# Altium schematic symbol library pcmcia.SCHLIB: 3 symbols
Pins are listed as number, name and electrical type; pins without a type are passive.

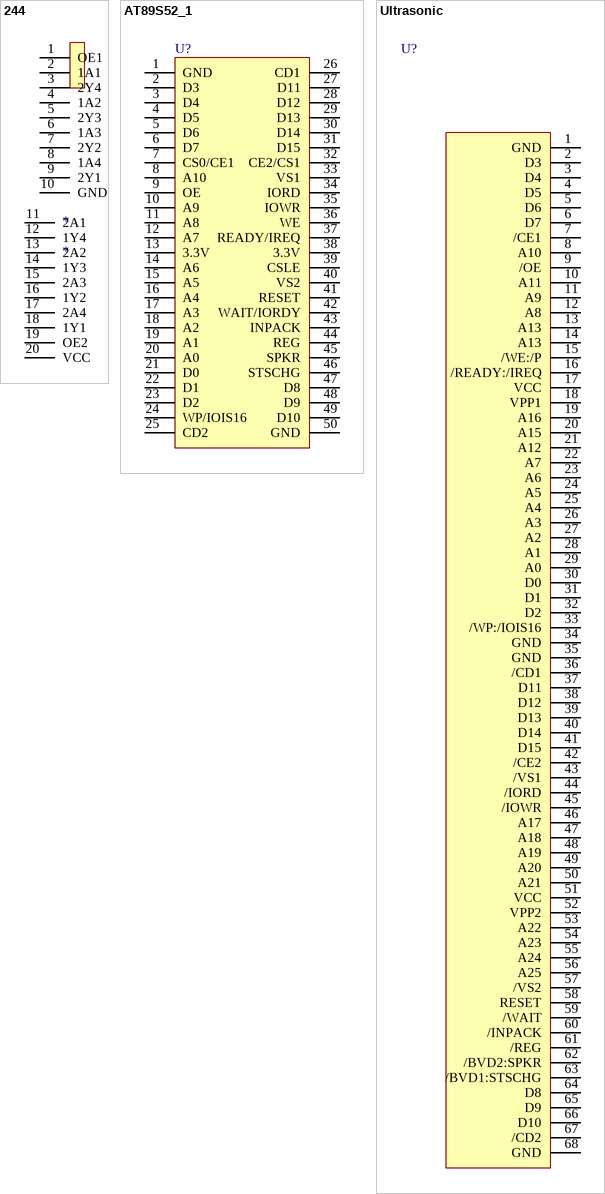
[diagram p0: symbols 244 to Ultrasonic]

## 244
designator *
pins: 1 OE1, 2 1A1, 3 2Y4, 4 1A2, 5 2Y3, 6 1A3, 7 2Y2, 8 1A4, 9 2Y1, 10 GND, 11 2A1, 12 1Y4, 13 2A2, 14 1Y3, 15 2A3, 16 1Y2, 17 2A4, 18 1Y1, 19 OE2, 20 VCC

## AT89S52_1
designator U?
footprint DIP40
footprint DIP40_600MIL
footprint DIP40_600MIL
pins: 1 GND, 2 D3, 3 D4, 4 D5, 5 D6, 6 D7, 7 CS0/CE1, 8 A10, 9 OE, 10 A9, 11 A8, 12 A7, 13 3.3V, 14 A6, 15 A5, 16 A4, 17 A3, 18 A2, 19 A1, 20 A0, 21 D0, 22 D1, 23 D2, 24 WP/IOIS16, 25 CD2, 26 CD1, 27 D11, 28 D12, 29 D13, 30 D14, 31 D15, 32 CE2/CS1, 33 VS1, 34 IORD, 35 IOWR, 36 WE, 37 READY/IREQ, 38 3.3V, 39 CSLE, 40 VS2, 41 RESET, 42 WAIT/IORDY, 43 INPACK, 44 REG, 45 SPKR, 46 STSCHG, 47 D8, 48 D9, 49 D10, 50 GND
2 alternate drawings of the same symbol

## Ultrasonic
designator U?
footprint Ultrasonic
footprint PCMCIA_68pin_F
pins: 1 GND, 2 D3, 3 D4, 4 D5, 5 D6, 6 D7, 7 /CE1, 8 A10, 9 /OE, 10 A11, 11 A9, 12 A8, 13 A13, 14 A13, 15 /WE:/P, 16 /READY:/IREQ, 17 VCC, 18 VPP1, 19 A16, 20 A15, 21 A12, 22 A7, 23 A6, 24 A5, 25 A4, 26 A3, 27 A2, 28 A1, 29 A0, 30 D0, 31 D1, 32 D2, 33 /WP:/IOIS16, 34 GND, 35 GND, 36 /CD1, 37 D11, 38 D12, 39 D13, 40 D14, 41 D15, 42 /CE2, 43 /VS1, 44 /IORD, 45 /IOWR, 46 A17, 47 A18, 48 A19, 49 A20, 50 A21, 51 VCC, 52 VPP2, 53 A22, 54 A23, 55 A24, 56 A25, 57 /VS2, 58 RESET, 59 /WAIT, 60 /INPACK, 61 /REG, 62 /BVD2:SPKR, 63 /BVD1:STSCHG, 64 D8, 65 D9, 66 D10, 67 /CD2, 68 GND